# Altium footprint library SON_50P_V.PcbLib: 22 footprints (part 1 of 2)
Each footprint in its own frame and in the unit in brackets; x right, y up, seen from the top. Pads: shape width x height; smd on the part's side, far side on the other; paste and mask are expansions set on the pad; w line width, h text height; cw(c..) or ccw(c..) is an arc to the next point about the centre after c.
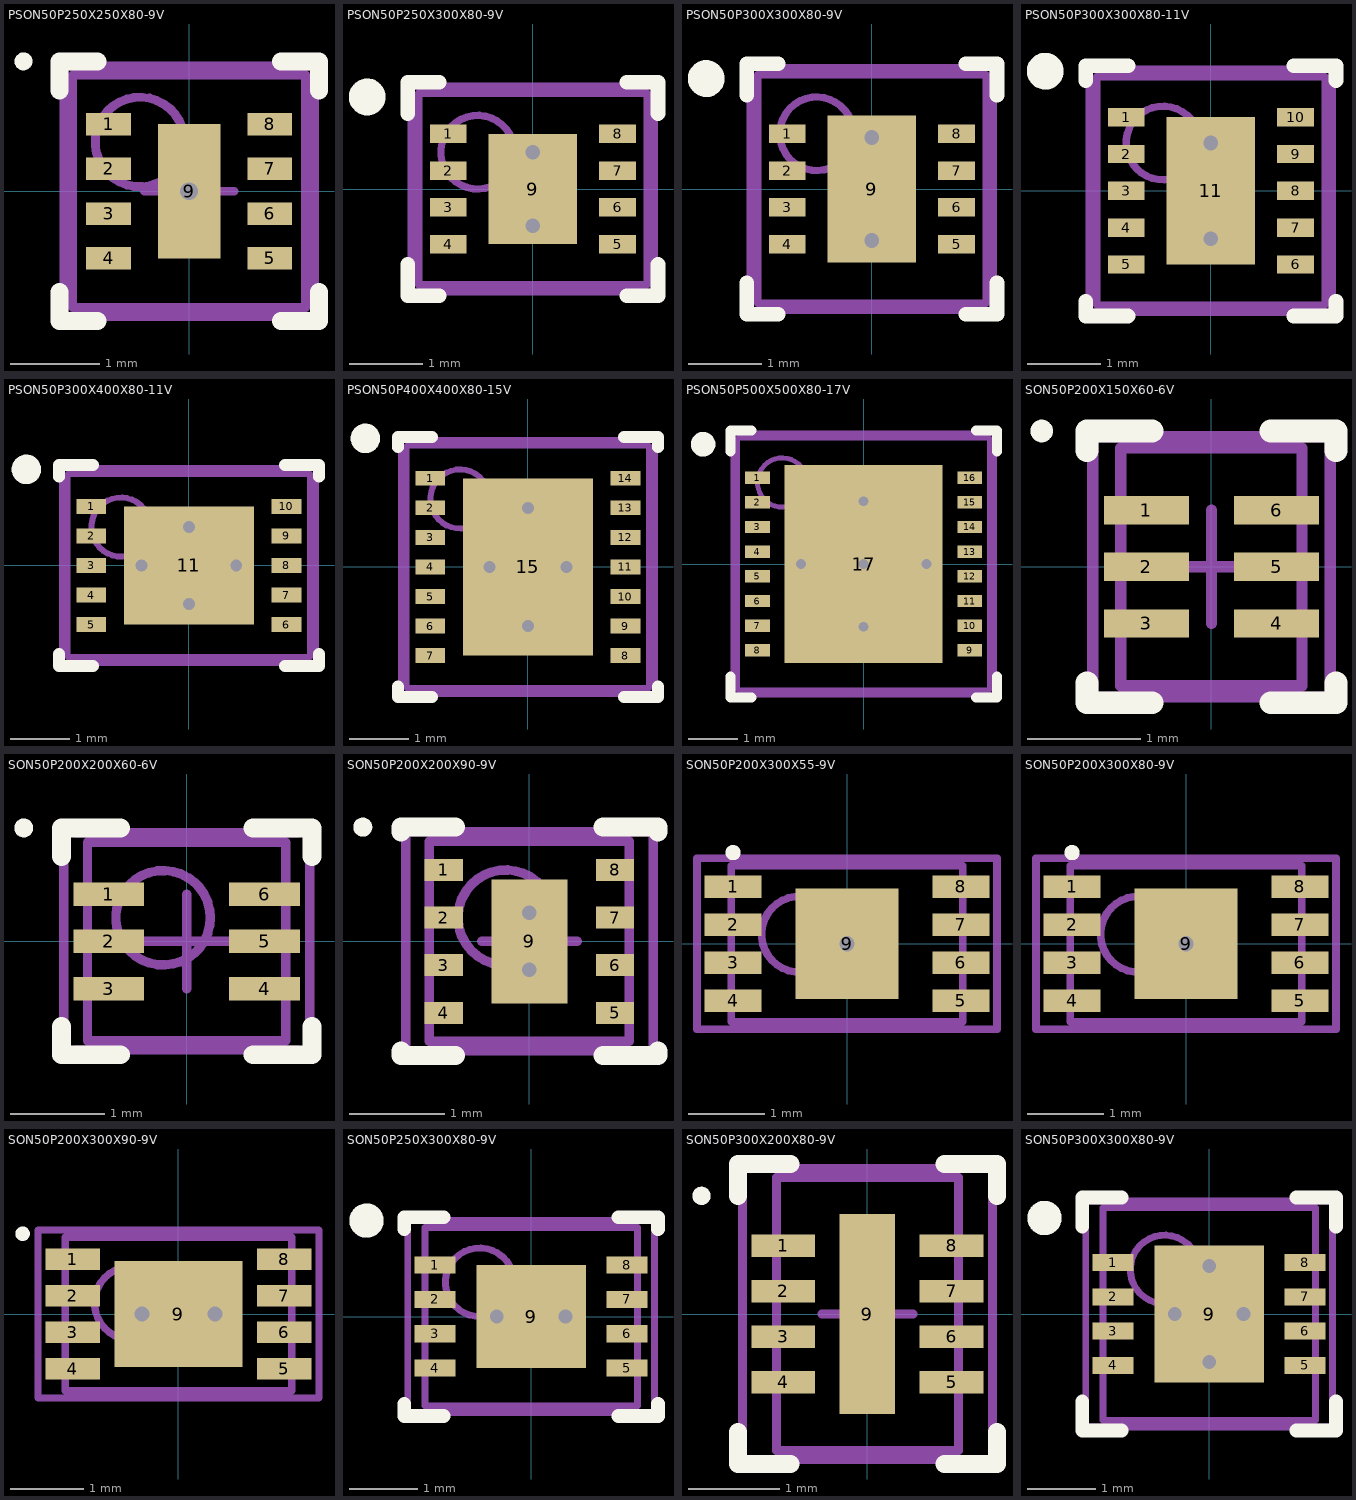
[diagram p0: the footprints below, top view; thin cyan lines are the x and y axes]

## PSON50P250X250X80-9V [mm] "PSON, 8-Leads, Body 2.5x2.5mm, Pitch 0.5mm, NSC Recommended"
height 0.8
pads (9):
  rect 0.5x0.25 smd paste-0.125 mask+0.051: 1(-0.9,0.75) 2(-0.9,0.25) 3(-0.9,-0.25) 4(-0.9,-0.75) 5(0.9,-0.75) 6(0.9,-0.25) 7(0.9,0.25) 8(0.9,0.75)
  rect 0.7x1.5 smd paste-0.35 mask+0.051: 9(0,0)
via 0,0 diameter 0.5 hole 0.2
Top Overlay:
  circle w0.1: c-1.85,1.45 r0.05
  lines w0.2: -1.45,-1.125 -1.45,-1.45 -1.025,-1.45 ; -1.45,1.125 -1.45,1.45 -1.025,1.45 ; 1.025,-1.45 1.45,-1.45 1.45,-1.125 ; 1.025,1.45 1.45,1.45 1.45,1.125
Top Paste:
  region: -0.75,0.875 -1.25,0.875 -1.25,0.625 -0.75,0.625
  region: -0.75,0.375 -1.25,0.375 -1.25,0.125 -0.75,0.125
  region: -0.75,-0.125 -1.25,-0.125 -1.25,-0.375 -0.75,-0.375
  region: -0.75,-0.625 -1.25,-0.625 -1.25,-0.875 -0.75,-0.875
  rectangle: 0.75,-0.875 1.25,-0.625
  rectangle: 0.75,-0.375 1.25,-0.125
  rectangle: 0.75,0.125 1.25,0.375
  rectangle: 0.75,0.625 1.25,0.875
  rectangle: -0.333,-0.713 0.333,0.713
Mechanical 13:
  circle w0.1: c-0.55,0.55 r0.5
  lines w0.1: -1.3,-1.3 1.3,-1.3 1.3,1.3 -1.3,1.3 -1.3,-1.3
Mechanical 15:
  lines w0.1: -0.5,0 0.5,0 ; 0,-0.5 0,0.5 ; -1.4,-1.4 1.4,-1.4 1.4,1.4 -1.4,1.4 -1.4,-1.4
3D body: height 0.8, standoff 0, extent -1.299,-1.299 1.299,1.299

## PSON50P250X300X80-9V [mm] "PSON, 8-Leads, Body 2.5x3mm, Pitch 0.5mm, NSC Recommended"
height 0.8
pads (9):
  rect 0.5x0.25 smd paste-0.125 mask+0.051: 1(-1.15,0.75) 2(-1.15,0.25) 3(-1.15,-0.25) 4(-1.15,-0.75) 5(1.15,-0.75) 6(1.15,-0.25) 7(1.15,0.25) 8(1.15,0.75)
  rect 1.2x1.5 smd paste-0.6 mask+0.051: 9(0,0)
via 0,-0.5 diameter 0.5 hole 0.2
via 0,0.5 diameter 0.5 hole 0.2
Top Overlay:
  circle w0.25: c-2.25,1.25 r0.125
  lines w0.2: -1.7,-1.025 -1.7,-1.45 -1.275,-1.45 ; -1.7,1.025 -1.7,1.45 -1.275,1.45 ; 1.275,-1.45 1.7,-1.45 1.7,-1.025 ; 1.275,1.45 1.7,1.45 1.7,1.025
Top Paste:
  rectangle: -0.57,-0.713 0.57,0.713
  region: -1.5,-0.625 -1.5,-0.875 -1,-0.875 -1,-0.625
  region: -1.5,-0.125 -1.5,-0.375 -1,-0.375 -1,-0.125
  region: -1.5,0.375 -1.5,0.125 -1,0.125 -1,0.375
  region: -1.5,0.875 -1.5,0.625 -1,0.625 -1,0.875
  region: 1,-0.625 1,-0.875 1.5,-0.875 1.5,-0.625
  region: 1,-0.125 1,-0.375 1.5,-0.375 1.5,-0.125
  region: 1,0.375 1,0.125 1.5,0.125 1.5,0.375
  region: 1,0.875 1,0.625 1.5,0.625 1.5,0.875
Mechanical 13:
  circle w0.1: c-0.75,0.5 r0.5
  lines w0.1: -1.55,-1.3 -1.55,1.3 1.55,1.3 1.55,-1.3 -1.55,-1.3
Mechanical 15:
  lines w0.1: -0.5,0 0.5,0 ; 0,-0.5 0,0.5 ; -1.65,-1.4 -1.65,1.4 1.65,1.4 1.65,-1.4 -1.65,-1.4
3D body: height 0.8, standoff 0, extent -1.549,-1.299 1.549,1.299

## PSON50P300X300X80-9V [mm] "PSON, 8-Leads, Body 3x3mm, Pitch 0.5mm, NSC Recommended"
height 0.8
pads (9):
  rect 0.5x0.25 smd paste-0.125 mask+0.051: 1(-1.15,0.75) 2(-1.15,0.25) 3(-1.15,-0.25) 4(-1.15,-0.75) 5(1.15,-0.75) 6(1.15,-0.25) 7(1.15,0.25) 8(1.15,0.75)
  rect 1.2x2 smd paste-0.6 mask+0.051: 9(0,0)
via 0,0.7 diameter 0.5 hole 0.2
via 0,-0.7 diameter 0.5 hole 0.2
Top Overlay:
  circle w0.25: c-2.25,1.5 r0.125
  lines w0.2: -1.7,-1.275 -1.7,-1.7 -1.275,-1.7 ; -1.7,1.275 -1.7,1.7 -1.275,1.7 ; 1.275,-1.7 1.7,-1.7 1.7,-1.275 ; 1.275,1.7 1.7,1.7 1.7,1.275
Top Paste:
  rectangle: -0.57,-0.95 0.57,0.95
  region: -1.5,-0.625 -1.5,-0.875 -1,-0.875 -1,-0.625
  region: -1.5,-0.125 -1.5,-0.375 -1,-0.375 -1,-0.125
  region: -1.5,0.375 -1.5,0.125 -1,0.125 -1,0.375
  region: -1.5,0.875 -1.5,0.625 -1,0.625 -1,0.875
  region: 1,-0.625 1,-0.875 1.5,-0.875 1.5,-0.625
  region: 1,-0.125 1,-0.375 1.5,-0.375 1.5,-0.125
  region: 1,0.375 1,0.125 1.5,0.125 1.5,0.375
  region: 1,0.875 1,0.625 1.5,0.625 1.5,0.875
Mechanical 13:
  circle w0.1: c-0.75,0.75 r0.5
  lines w0.1: -1.55,-1.55 -1.55,1.55 1.55,1.55 1.55,-1.55 -1.55,-1.55
Mechanical 15:
  lines w0.1: -0.5,0 0.5,0 ; 0,-0.5 0,0.5 ; -1.65,-1.65 -1.65,1.65 1.65,1.65 1.65,-1.65 -1.65,-1.65
3D body: height 0.8, standoff 0, extent -1.55,-1.55 1.55,1.55

## PSON50P300X300X80-11V [mm] "PSON, 10-Leads, Body 3x3mm, Pitch 0.5mm, NSC Recommended"
height 0.8
pads (11):
  rect 0.5x0.25 smd paste-0.125 mask+0.051: 1(-1.15,1) 2(-1.15,0.5) 3(-1.15,0) 4(-1.15,-0.5) 5(-1.15,-1) 6(1.15,-1) 7(1.15,-0.5) 8(1.15,0) 9(1.15,0.5) 10(1.15,1)
  rect 1.2x2 smd paste-0.6 mask+0.051: 11(0,0)
via 0,-0.65 diameter 0.5 hole 0.2
via 0,0.65 diameter 0.5 hole 0.2
Top Overlay:
  circle w0.25: c-2.25,1.625 r0.125
  lines w0.2: -1.7,-1.5 -1.7,-1.7 -1.125,-1.7 ; -1.7,1.5 -1.7,1.7 -1.125,1.7 ; 1.125,-1.7 1.7,-1.7 1.7,-1.5 ; 1.125,1.7 1.7,1.7 1.7,1.5
Top Paste:
  region: 1.5,-0.875 1,-0.875 1,-1.125 1.5,-1.125
  region: 1.5,-0.375 1,-0.375 1,-0.625 1.5,-0.625
  region: 1.5,0.125 1,0.125 1,-0.125 1.5,-0.125
  region: 1.5,0.625 1,0.625 1,0.375 1.5,0.375
  region: 1.5,1.125 1,1.125 1,0.875 1.5,0.875
  rectangle: -1.5,-1.125 -1,-0.875
  rectangle: -1.5,-0.625 -1,-0.375
  rectangle: -1.5,-0.125 -1,0.125
  rectangle: -1.5,0.375 -1,0.625
  rectangle: -1.5,0.875 -1,1.125
  rectangle: -0.57,-0.95 0.57,0.95
Mechanical 13:
  circle w0.1: c-0.65,0.65 r0.5
  lines w0.1: -1.55,-1.55 1.55,-1.55 1.55,1.55 -1.55,1.55 -1.55,-1.55
Mechanical 15:
  lines w0.1: -0.5,0 0.5,0 ; 0,-0.5 0,0.5 ; -1.65,-1.65 1.65,-1.65 1.65,1.65 -1.65,1.65 -1.65,-1.65
3D body: height 0.8, standoff 0, extent -1.55,-1.55 1.55,1.55

## PSON50P300X400X80-11V [mm] "PSON, 10-Leads, Body 3x4mm, Pitch 0.5mm, NSC Recommended"
height 0.8
pads (11):
  rect 0.5x0.25 smd paste-0.125 mask+0.051: 1(-1.65,1) 2(-1.65,0.5) 3(-1.65,0) 4(-1.65,-0.5) 5(-1.65,-1) 6(1.65,-1) 7(1.65,-0.5) 8(1.65,0) 9(1.65,0.5) 10(1.65,1)
  rect 2.2x2 smd paste-1 mask+0.051: 11(0,0)
via 0.8,0 diameter 0.5 hole 0.2
via -0.8,0 diameter 0.5 hole 0.2
via 0,0.65 diameter 0.5 hole 0.2
via 0,-0.65 diameter 0.5 hole 0.2
Top Overlay:
  circle w0.25: c-2.75,1.625 r0.125
  lines w0.2: -2.2,-1.5 -2.2,-1.7 -1.625,-1.7 ; -2.2,1.5 -2.2,1.7 -1.625,1.7 ; 1.625,-1.7 2.2,-1.7 2.2,-1.5 ; 1.625,1.7 2.2,1.7 2.2,1.5
Top Paste:
  region: 2,-0.875 1.5,-0.875 1.5,-1.125 2,-1.125
  region: 2,-0.375 1.5,-0.375 1.5,-0.625 2,-0.625
  region: 2,0.125 1.5,0.125 1.5,-0.125 2,-0.125
  region: 2,0.625 1.5,0.625 1.5,0.375 2,0.375
  region: 2,1.125 1.5,1.125 1.5,0.875 2,0.875
  rectangle: -2,-1.125 -1.5,-0.875
  rectangle: -2,-0.625 -1.5,-0.375
  rectangle: -2,-0.125 -1.5,0.125
  rectangle: -2,0.375 -1.5,0.625
  rectangle: -2,0.875 -1.5,1.125
  rectangle: -0.99,-0.9 0.99,0.9
Mechanical 13:
  circle w0.1: c-1.15,0.65 r0.5
  lines w0.1: -2.05,-1.55 -2.05,1.55 2.05,1.55 2.05,-1.55 -2.05,-1.55
Mechanical 15:
  lines w0.1: -0.5,0 0.5,0 ; 0,-0.5 0,0.5 ; -2.15,-1.65 2.15,-1.65 2.15,1.65 -2.15,1.65 -2.15,-1.65
3D body: height 0.8, standoff 0, extent -2.049,-1.549 2.049,1.549

## PSON50P400X400X80-15V [mm] "PSON, 14-Leads, Body 4x4mm, Pitch 0.5mm, NSC Recommended"
height 0.8
pads (15):
  rect 0.5x0.25 smd paste-0.125 mask+0.051: 1(-1.65,1.5) 2(-1.65,1) 3(-1.65,0.5) 4(-1.65,0) 5(-1.65,-0.5) 6(-1.65,-1) 7(-1.65,-1.5) 8(1.65,-1.5) 9(1.65,-1) 10(1.65,-0.5) 11(1.65,0) 12(1.65,0.5) 13(1.65,1) 14(1.65,1.5)
  rect 2.2x3 smd paste-1.3 mask+0.051: 15(0,0)
via 0.65,0 diameter 0.5 hole 0.2
via -0.65,0 diameter 0.5 hole 0.2
via 0,-1 diameter 0.5 hole 0.2
via 0,1 diameter 0.5 hole 0.2
Top Overlay:
  circle w0.25: c-2.75,2.175 r0.125
  lines w0.2: -2.2,-2.025 -2.2,-2.2 -1.625,-2.2 ; -2.2,2.025 -2.2,2.2 -1.625,2.2 ; 1.625,-2.2 2.2,-2.2 2.2,-2.025 ; 1.625,2.2 2.2,2.2 2.2,2.025
Top Paste:
  region: -1.5,1.625 -2,1.625 -2,1.375 -1.5,1.375
  region: -1.5,1.125 -2,1.125 -2,0.875 -1.5,0.875
  region: -1.5,0.625 -2,0.625 -2,0.375 -1.5,0.375
  region: -1.5,0.125 -2,0.125 -2,-0.125 -1.5,-0.125
  region: -1.5,-0.375 -2,-0.375 -2,-0.625 -1.5,-0.625
  region: -1.5,-0.875 -2,-0.875 -2,-1.125 -1.5,-1.125
  region: -1.5,-1.375 -2,-1.375 -2,-1.625 -1.5,-1.625
  rectangle: 1.5,-1.625 2,-1.375
  rectangle: 1.5,-1.125 2,-0.875
  rectangle: 1.5,-0.625 2,-0.375
  rectangle: 1.5,-0.125 2,0.125
  rectangle: 1.5,0.375 2,0.625
  rectangle: 1.5,0.875 2,1.125
  rectangle: 1.5,1.375 2,1.625
  region: 1,1.4 0.1,1.4 0.1,0.1 1,0.1
  region: 1,-0.1 0.1,-0.1 0.1,-1.4 1,-1.4
  rectangle: -1,-1.4 -0.1,-0.1
  rectangle: -1,0.1 -0.1,1.4
Mechanical 13:
  circle w0.1: c-1.15,1.15 r0.5
  lines w0.1: -2.05,-2.05 -2.05,2.05 2.05,2.05 2.05,-2.05 -2.05,-2.05
Mechanical 15:
  lines w0.1: -0.5,0 0.5,0 ; 0,-0.5 0,0.5 ; -2.15,-2.15 2.15,-2.15 2.15,2.15 -2.15,2.15 -2.15,-2.15
3D body: height 0.8, standoff 0, extent -2.049,-2.049 2.049,2.049

## PSON50P500X500X80-17V [mm] "PSON, 16-Leads, Body 5x5 mm, Pitch 0.5mm, NSC Recommended"
height 0.8
pads (17):
  rect 0.5x0.25 smd paste-0.125 mask+0.051: 1(-2.15,1.75) 2(-2.15,1.25) 3(-2.15,0.75) 4(-2.15,0.25) 5(-2.15,-0.25) 6(-2.15,-0.75) 7(-2.15,-1.25) 8(-2.15,-1.75) 9(2.15,-1.75) 10(2.15,-1.25) 11(2.15,-0.75) 12(2.15,-0.25) 13(2.15,0.25) 14(2.15,0.75) 15(2.15,1.25) 16(2.15,1.75)
  rect 3.2x4 smd paste-1.6 mask+0.051: 17(0,0)
via 1.27,0 diameter 0.5 hole 0.2
via 0,1.27 diameter 0.5 hole 0.2
via 0,0 diameter 0.5 hole 0.2
via 0,-1.27 diameter 0.5 hole 0.2
via -1.27,0 diameter 0.5 hole 0.2
Top Overlay:
  circle w0.25: c-3.25,2.425 r0.125
  lines w0.2: -2.7,-2.275 -2.7,-2.7 -2.275,-2.7 ; -2.7,2.275 -2.7,2.7 -2.275,2.7 ; 2.275,-2.7 2.7,-2.7 2.7,-2.275 ; 2.275,2.7 2.7,2.7 2.7,2.275
Top Paste:
  region: 2.5,1.875 2,1.875 2,1.625 2.5,1.625
  region: 2.5,1.375 2,1.375 2,1.125 2.5,1.125
  region: 2.5,0.875 2,0.875 2,0.625 2.5,0.625
  region: 2.5,0.375 2,0.375 2,0.125 2.5,0.125
  region: 2.5,-0.625 2,-0.625 2,-0.875 2.5,-0.875
  region: 2.5,-1.125 2,-1.125 2,-1.375 2.5,-1.375
  region: 2.5,-1.625 2,-1.625 2,-1.875 2.5,-1.875
  region: 2.5,-0.125 2,-0.125 2,-0.375 2.5,-0.375
  rectangle: -2.5,-0.375 -2,-0.125
  rectangle: -2.5,-1.875 -2,-1.625
  rectangle: -2.5,-1.375 -2,-1.125
  rectangle: -2.5,-0.875 -2,-0.625
  rectangle: -2.5,0.125 -2,0.375
  rectangle: -2.5,0.625 -2,0.875
  rectangle: -2.5,1.125 -2,1.375
  rectangle: -2.5,1.625 -2,1.875
  rectangle: 0.1,-2 1.5,-0.1
  region: -0.1,-0.1 -1.5,-0.1 -1.5,-2 -0.1,-2
  region: -0.1,2 -1.5,2 -1.5,0.1 -0.1,0.1
  rectangle: 0.1,0.1 1.5,2
Mechanical 13:
  circle w0.1: c-1.65,1.65 r0.5
  lines w0.1: -2.55,-2.55 2.55,-2.55 2.55,2.55 -2.55,2.55 -2.55,-2.55
Mechanical 15:
  lines w0.1: -0.5,0 0.5,0 ; 0,-0.5 0,0.5 ; -2.65,-2.65 -2.65,2.65 2.65,2.65 2.65,-2.65 -2.65,-2.65
3D body: height 0.8, standoff 0, extent -2.55,-2.55 2.55,2.55

## SON50P200X150X60-6V [mm] "SON, 6-Leads, Body 2x1.5mm, Pitch 0.5mm, NSC Recommended"
height 0.6
pads (6):
  rect 0.75x0.25 smd paste-0.125 mask+0.051: 1(-0.575,0.5) 2(-0.575,0) 3(-0.575,-0.5) 4(0.575,-0.5) 5(0.575,0) 6(0.575,0.5)
Top Overlay:
  circle w0.1: c-1.5,1.2 r0.05
  lines w0.2: -1.1,-1.025 -1.1,-1.2 -0.525,-1.2 ; -1.1,1.025 -1.1,1.2 -0.525,1.2 ; 0.525,-1.2 1.1,-1.2 1.1,-1.025 ; 0.525,1.2 1.1,1.2 1.1,1.025
Top Paste:
  region: 1.1,0.625 0.25,0.625 0.25,0.375 1.1,0.375
  region: 1.1,0.125 0.25,0.125 0.25,-0.125 1.1,-0.125
  region: 1.1,-0.375 0.25,-0.375 0.25,-0.625 1.1,-0.625
  rectangle: -1.15,-0.625 -0.3,-0.375
  rectangle: -1.15,-0.125 -0.3,0.125
  rectangle: -1.15,0.375 -0.3,0.625
Mechanical 13:
  lines w0.1: -0.8,-1.05 -0.8,1.05 0.8,1.05 0.8,-1.05 -0.8,-1.05
Mechanical 15:
  lines w0.1: -0.5,0 0.5,0 ; 0,-0.5 0,0.5 ; -1.05,-1.15 -1.05,1.15 1.05,1.15 1.05,-1.15 -1.05,-1.15
3D body: height 0.6, standoff 0, extent -0.799,-1.049 0.799,1.049

## SON50P200X200X60-6V [mm] "SON, 6-Leads, Body 2x2mm, Pitch 0.5mm, NSC Recommended"
height 0.6
pads (6):
  rect 0.75x0.25 smd paste-0.125 mask+0.051: 1(-0.825,0.5) 2(-0.825,0) 3(-0.825,-0.5) 4(0.825,-0.5) 5(0.825,0) 6(0.825,0.5)
Top Overlay:
  circle w0.1: c-1.725,1.2 r0.05
  lines w0.2: -1.325,-0.9 -1.325,-1.2 -0.7,-1.2 ; -1.325,0.9 -1.325,1.2 -0.7,1.2 ; 0.7,-1.2 1.325,-1.2 1.325,-0.9 ; 0.7,1.2 1.325,1.2 1.325,0.9
Top Paste:
  rectangle: 0.55,-0.625 1.4,-0.375
  rectangle: 0.55,-0.125 1.4,0.125
  rectangle: 0.55,0.375 1.4,0.625
  region: -0.55,0.625 -1.4,0.625 -1.4,0.375 -0.55,0.375
  region: -0.55,0.125 -1.4,0.125 -1.4,-0.125 -0.55,-0.125
  region: -0.55,-0.375 -1.4,-0.375 -1.4,-0.625 -0.55,-0.625
Mechanical 13:
  circle w0.1: c-0.25,0.25 r0.5
  lines w0.1: -1.05,-1.05 -1.05,1.05 1.05,1.05 1.05,-1.05 -1.05,-1.05
Mechanical 15:
  lines w0.1: -1.3,-1.15 -1.3,1.15 ; -1.175,-1.15 1.175,-1.15 ; -1.175,1.15 1.175,1.15 ; -0.5,0 0.5,0 ; 0,-0.5 0,0.5 ; 1.3,-1.15 1.3,1.15
3D body: height 0.6, standoff 0, extent -1.049,-1.049 1.049,1.049

## SON50P200X200X90-9V [mm] "SON 9-Leads, Body 2x2mm, Pitch 0.50mm, Micrel Recommended"
height 0.9
pads (9):
  rect 0.4x0.23 smd: 1(-0.9,0.75) 2(-0.9,0.25) 3(-0.9,-0.25) 4(-0.9,-0.75) 5(0.9,-0.75) 6(0.9,-0.25) 7(0.9,0.25) 8(0.9,0.75)
  rect 0.8x1.3 smd: 9(0,0)
via 0,-0.3 diameter 0.3 hole 0.152
via 0,0.3 diameter 0.3 hole 0.152
Top Overlay:
  circle w0.1: c-1.75,1.2 r0.05
  lines w0.2: -1.35,-1.15 -1.35,-1.2 -0.775,-1.2 ; -1.35,1.15 -1.35,1.2 -0.775,1.2 ; 0.775,-1.2 1.35,-1.2 1.35,-1.15 ; 0.775,1.2 1.35,1.2 1.35,1.15
Mechanical 13:
  circle w0.1: c-0.25,0.25 r0.5
  lines w0.1: -1.05,-1.05 -1.05,1.05 1.05,1.05 1.05,-1.05 -1.05,-1.05
Mechanical 15:
  lines w0.1: -0.5,0 0.5,0 ; 0,-0.5 0,0.5 ; -1.3,-1.15 -1.3,1.15 1.3,1.15 1.3,-1.15 -1.3,-1.15
3D body: height 0.9, standoff 0, extent -1.049,-1.049 1.049,1.049

## SON50P200X300X55-9V [mm] "SON, 8-Leads, Body 2x3mm, Pitch 0.5mm, Microchip Recommended"
height 0.55
pads (9):
  rect 0.75x0.3 smd: 1(-1.5,0.75) 2(-1.5,0.25) 3(-1.5,-0.25) 4(-1.5,-0.75) 5(1.5,-0.75) 6(1.5,-0.25) 7(1.5,0.25) 8(1.5,0.75)
  rect 1.36x1.46 smd: 9(0,0)
via 0,0 diameter 0.5 hole 0.2
Top Overlay:
  circle w0.1: c-1.5,1.2 r0.05
Mechanical 13:
  circle w0.1: c-0.625,0.125 r0.5
  lines w0.1: -1.525,-1.025 -1.525,1.025 1.525,1.025 1.525,-1.025 -1.525,-1.025
Mechanical 15:
  lines w0.1: -1.975,-1.125 1.975,-1.125 1.975,1.125 -1.975,1.125 -1.975,-1.125
3D body: height 0.55, standoff 0, extent -1.524,-1.024 1.524,1.024

## SON50P200X300X80-9V [mm] "SON, 8-Leads, Body 2x3mm, Pitch 0.5mm, Microchip Recommended"
height 0.8
pads (9):
  rect 0.75x0.3 smd: 1(-1.5,0.75) 2(-1.5,0.25) 3(-1.5,-0.25) 4(-1.5,-0.75) 5(1.5,-0.75) 6(1.5,-0.25) 7(1.5,0.25) 8(1.5,0.75)
  rect 1.36x1.46 smd: 9(0,0)
via 0,0 diameter 0.5 hole 0.2
Top Overlay:
  circle w0.1: c-1.5,1.2 r0.05
Mechanical 13:
  circle w0.1: c-0.625,0.125 r0.5
  lines w0.1: -1.525,-1.025 1.525,-1.025 1.525,1.025 -1.525,1.025 -1.525,-1.025
Mechanical 15:
  lines w0.1: -1.975,-1.125 -1.975,1.125 1.975,1.125 1.975,-1.125 -1.975,-1.125
3D body: height 0.8, standoff 0, extent -1.524,-1.024 1.524,1.024

## SON50P200X300X90-9V [mm] "SON, 8-Leads, Body 2x3mm, Pitch 0.5mm, Microchip Recommended"
height 1
pads (9):
  rect 0.75x0.3 smd: 1(-1.45,0.75) 2(-1.45,0.25) 3(-1.45,-0.25) 4(-1.45,-0.75) 5(1.45,-0.75) 6(1.45,-0.25) 7(1.45,0.25) 8(1.45,0.75)
  rect 1.75x1.45 smd: 9(0,0)
via 0.5,0 diameter 0.5 hole 0.2
via -0.5,0 diameter 0.5 hole 0.2
Top Overlay:
  circle w0.1: c-2.135,1.1 r0.05
Mechanical 13:
  circle w0.1: c-0.65,0.15 r0.5
  lines w0.1: -1.55,-1.05 -1.55,1.05 1.55,1.05 1.55,-1.05 -1.55,-1.05
Mechanical 15:
  lines w0.1: -0.5,0 0.5,0 ; 0,-0.5 0,0.5 ; -1.925,-1.15 -1.925,1.15 1.925,1.15 1.925,-1.15 -1.925,-1.15
3D body: height 1, standoff 0, extent -1.549,-1.049 1.549,1.049

## SON50P250X300X80-9V [mm] "SON, 8-Leads, Body 2.5x3mm, Pitch 0.5mm, NSC Recommended"
height 0.8
pads (9):
  rect 0.6x0.25 smd paste-0.125 mask+0.051: 1(-1.4,0.75) 2(-1.4,0.25) 3(-1.4,-0.25) 4(-1.4,-0.75) 5(1.4,-0.75) 6(1.4,-0.25) 7(1.4,0.25) 8(1.4,0.75)
  rect 1.6x1.5 smd paste-0.05 mask+0.051: 9(0,0)
via -0.5,0 diameter 0.5 hole 0.2
via 0.5,0 diameter 0.5 hole 0.2
Top Overlay:
  circle w0.25: c-2.4,1.4 r0.125
  lines w0.2: -1.85,-1.275 -1.85,-1.45 -1.275,-1.45 ; -1.85,1.275 -1.85,1.45 -1.275,1.45 ; 1.275,-1.45 1.85,-1.45 1.85,-1.275 ; 1.275,1.45 1.85,1.45 1.85,1.275
Top Paste:
  region: 1.2,0.875 1.2,0.625 1.9,0.625 1.9,0.875
  region: 1.2,0.375 1.2,0.125 1.9,0.125 1.9,0.375
  region: 1.2,-0.125 1.2,-0.375 1.9,-0.375 1.9,-0.125
  region: 1.2,-0.625 1.2,-0.875 1.9,-0.875 1.9,-0.625
  region: -1.9,-0.625 -1.9,-0.875 -1.2,-0.875 -1.2,-0.625
  region: -1.9,-0.125 -1.9,-0.375 -1.2,-0.375 -1.2,-0.125
  region: -1.9,0.375 -1.9,0.125 -1.2,0.125 -1.2,0.375
  region: -1.9,0.875 -1.9,0.625 -1.2,0.625 -1.2,0.875
Mechanical 13:
  circle w0.1: c-0.75,0.5 r0.5
  lines w0.1: -1.55,-1.3 1.55,-1.3 1.55,1.3 -1.55,1.3 -1.55,-1.3
Mechanical 15:
  lines w0.1: -0.5,0 0.5,0 ; 0,-0.5 0,0.5 ; -1.8,-1.4 -1.8,1.4 1.8,1.4 1.8,-1.4 -1.8,-1.4
3D body: height 0.8, standoff 0, extent -1.549,-1.299 1.549,1.299

## SON50P300X200X80-9V [mm] "SON, 8-Leads, Body 3x2 mm, Pitch 0.5mm, Linear Recommended"
height 0.8
pads (9):
  rect 0.7x0.25 smd: 1(-0.925,0.75) 2(-0.925,0.25) 3(-0.925,-0.25) 4(-0.925,-0.75) 5(0.925,-0.75) 6(0.925,-0.25) 7(0.925,0.25) 8(0.925,0.75)
  rect 0.61x2.2 smd: 9(0,0)
Top Overlay:
  circle w0.1: c-1.825,1.3 r0.05
  lines w0.2: -1.425,-1.3 -1.425,-1.65 -0.85,-1.65 ; -1.425,1.3 -1.425,1.65 -0.85,1.65 ; 0.85,-1.65 1.425,-1.65 1.425,-1.3 ; 0.85,1.65 1.425,1.65 1.425,1.3
Mechanical 13:
  lines w0.1: -1,-1.5 1,-1.5 1,1.5 -1,1.5 -1,-1.5
Mechanical 15:
  lines w0.1: -0.5,0 0.5,0 ; 0,-0.5 0,0.5 ; -1.375,-1.6 -1.375,1.6 1.375,1.6 1.375,-1.6 -1.375,-1.6
3D body: height 0.75, standoff 0, extent -0.999,-1.499 0.999,1.499

## SON50P300X300X80-9V [mm] "SON, 8-Leads, Body 3x3mm, Pitch 0.5mm, NSC Recommended"
height 0.8
pads (9):
  rect 0.6x0.25 smd paste-0.125 mask+0.051: 1(-1.4,0.75) 2(-1.4,0.25) 3(-1.4,-0.25) 4(-1.4,-0.75) 5(1.4,-0.75) 6(1.4,-0.25) 7(1.4,0.25) 8(1.4,0.75)
  rect 1.6x2 smd paste-0.05 mask+0.051: 9(0,0)
via 0,-0.7 diameter 0.5 hole 0.2
via 0,0.7 diameter 0.5 hole 0.2
via 0.5,0 diameter 0.5 hole 0.2
via -0.5,0 diameter 0.5 hole 0.2
Top Overlay:
  circle w0.25: c-2.4,1.4 r0.125
  lines w0.2: -1.85,-1.275 -1.85,-1.7 -1.275,-1.7 ; -1.85,1.275 -1.85,1.7 -1.275,1.7 ; 1.275,-1.7 1.85,-1.7 1.85,-1.275 ; 1.275,1.7 1.85,1.7 1.85,1.275
Top Paste:
  region: -1.9,0.875 -1.9,0.625 -1.2,0.625 -1.2,0.875
  region: -1.9,0.375 -1.9,0.125 -1.2,0.125 -1.2,0.375
  region: -1.9,-0.125 -1.9,-0.375 -1.2,-0.375 -1.2,-0.125
  region: -1.9,-0.625 -1.9,-0.875 -1.2,-0.875 -1.2,-0.625
  region: 1.2,-0.625 1.2,-0.875 1.9,-0.875 1.9,-0.625
  region: 1.2,-0.125 1.2,-0.375 1.9,-0.375 1.9,-0.125
  region: 1.2,0.375 1.2,0.125 1.9,0.125 1.9,0.375
  region: 1.2,0.875 1.2,0.625 1.9,0.625 1.9,0.875
Mechanical 13:
  circle w0.1: c-0.65,0.65 r0.5
  lines w0.1: -1.55,-1.55 -1.55,1.55 1.55,1.55 1.55,-1.55 -1.55,-1.55
Mechanical 15:
  lines w0.1: -0.5,0 0.5,0 ; 0,-0.5 0,0.5 ; -1.8,-1.65 -1.8,1.65 1.8,1.65 1.8,-1.65 -1.8,-1.65
3D body: height 0.8, standoff 0, extent -1.55,-1.55 1.55,1.55